# Altium schematic symbol library RES,442k,0.1%,0.125W,0805.Schlib: 1 symbol
Pins are listed as number, name and electrical type; pins without a type are passive.

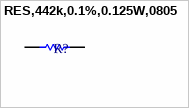
[diagram p0: symbol RES,442k,0.1%,0.125W,0805]

## RES,442k,0.1%,0.125W,0805
designator R?
pins: 1, 2